# EAGLE library part SP724AH (library diode-20CJQ030)
SP724 SCR Diode Array for ESD and Transient Overvoltage Protection Description: The SP724 is a quad array of transient voltage clamping circuits designed to suppress ESD and other transient over-voltage events. The SP724 is used to help protect sensitive digital or analog input circuits on data, signal, or control lines operating on power supplies up to 20VDC. The SP724 is comprised of bipolar SCR/diode structures to protect up to four independent lines by clamping transients of either polarity to the power supply rails. The SP724 offers very low leakage (1nA Typical) and low input capacitance (3pF Typical). Additionally, the SP724 is rated to withstand the IEC 61000-4-2 ESD specification for both contact and air discharge methods to level 4. The SP724 is connected to the sensitive input line and its associated power supply lines. Clamping action occurs during the transient pulse, turning on the diode and fast triggering SCR structures when the voltage on the input line exceeds one VBE threshold above the V+ supply (or one VBE threshold below the V- supply). Therefore, the SP724 operation is unaffected by poor power supply regulation or voltage fluctuations within its operating range. Features: An Array of 4 SCR/Diode Pairs in 6-Lead SOT-23 ESD Capability per HBM Standards - IEC 61000-4-2, Direct Discharge . . . . . . . . . . . . . . . . 8kV (Level 4) - IEC 61000-4-2, Air Discharge . . . . . . . . . . . . . . . . . 15kV (Level 4) - MIL STD 3015.7. . . . . . . . . . . . . . . . . . . . . . . . . . . . . . . . . . . >8kV Input Protection for Applications with Power Supplies Up to +20V (Single-Ended Voltage), and ±10V (Differential Voltage) Peak Current Capability IEC 61000-4-5 (8/20µs) . . . . . . . . . . . . . . . . . . . . . . . . . . . . . . ±3A Single Pulse, 100µs Pulse Width. . . . . . . . . . . . . . . . . . . . . . ±2.2A Low Input Leakage . . . . . . . . . . . . . . . . . . . . . . . . . . . . . . 1nA Typical Low Input Capacitance . . . . . . . . . . . . . . . . . . . . . . . . . . . 3pF Typical Operating Temperature Range . . . . . . . . . . . . . . . . . . . -40oC to 105oC Applications: Microprocessor/Logic Input Protection Data Bus Protection Analog Device Input Protection Voltage Clamp Please send any comments to: messi@users.sourceforge.net
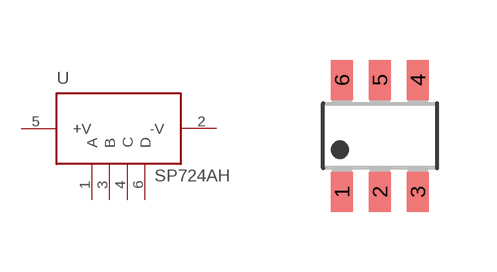
[diagram p29: symbol with the pads of SOT23-6L; footprint SOT23-6L]

Designator prefix U

## SP724AH  [SOT23-6L]
1  A
2  -V  pwr
3  B
4  C
5  +V  pwr
6  D

## Footprint SOT23-6L (pad centres in mm)
Small Outline Transistor
smd 0.55 x 1: 1 -0.95,-1.4; 2 0,-1.4; 3 0.95,-1.4; 4 0.95,1.4; 5 0,1.4; 6 -0.95,1.4